# EAGLE library part M5STACK_MBUS (library m5stack-connector)
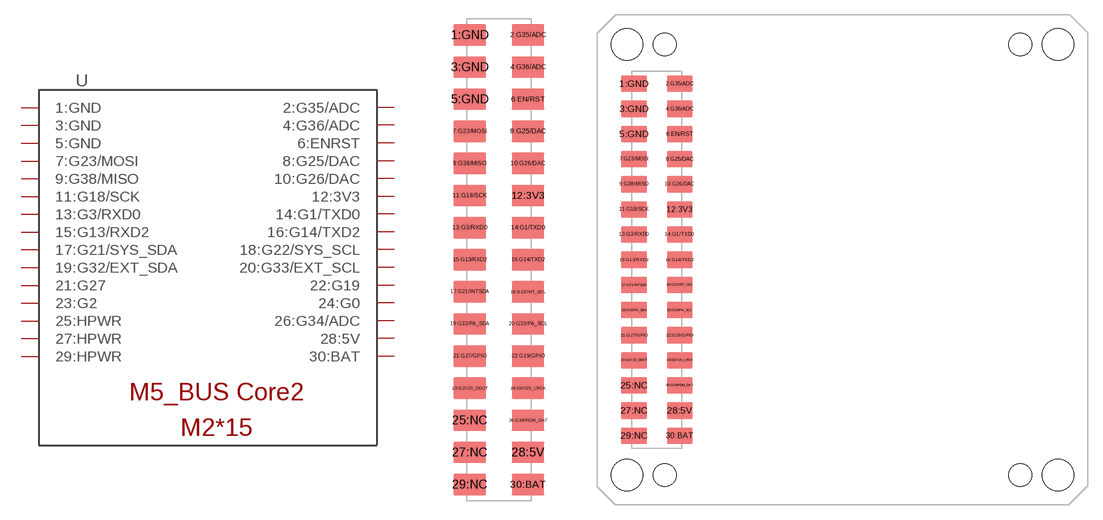
[diagram p0: symbol with the pads of PINHEAD2X15; footprints PINHEAD2X15, PINHEAD2X15CORE2]

Designator prefix -

## M5STACK_MBUS  [PINHEAD2X15]
1:GND  1:GND  pas
2:G35/ADC  2:G35/ADC  pas
3:GND  3:GND  pas
4:G36/ADC  4:G36/ADC  pas
5:GND  5:GND  pas
6:EN/RST  6:ENRST  pas
7:G23/MOSI  7:G23/MOSI  pas
8:G25/DAC  8:G25/DAC  pas
9:G38/MISO  9:G38/MISO  pas
10:G26/DAC  10:G26/DAC  pas
11:G18/SCK  11:G18/SCK  pas
12:3V3  12:3V3  pas
13:G3/RXD0  13:G3/RXD0  pas
14:G1/TXD0  14:G1/TXD0  pas
15:G13/RXD2  15:G13/RXD2  pas
16:G14/TXD2  16:G14/TXD2  pas
17:G21/INTSDA  17:G21/SYS_SDA  pas
18:G22/INT_SCL  18:G22/SYS_SCL  pas
19:G32/PA_SDA  19:G32/EXT_SDA  pas
20:G33/PA_SCL  20:G33/EXT_SCL  pas
21:G27/GPIO  21:G27  pas
22:G19/GPIO  22:G19  pas
23:G2/I2S_DOUT  23:G2  pas
24:G0/I2S_LRCK  24:G0  pas
25:NC  25:HPWR  pas
26:G34/PDM_DAT  26:G34/ADC  pas
27:NC  27:HPWR  pas
28:5V  28:5V  pas
29:NC  29:HPWR  pas
30:BAT  30:BAT  pas

## M5STACK_MBUSPINHEADM5STACK  [PINHEAD2X15CORE2]
Pads as for PINHEAD2X15

## Footprint PINHEAD2X15 (pad centres in mm)
smd 2.6 x 1.7: 1:GND -2.3,17.78; 2:G35/ADC 2.3,17.78; 3:GND -2.3,15.24; 4:G36/ADC 2.3,15.24; 5:GND -2.3,12.7; 6:EN/RST 2.3,12.7; 7:G23/MOSI -2.3,10.16; 8:G25/DAC 2.3,10.16; 9:G38/MISO -2.3,7.62; 10:G26/DAC 2.3,7.62; 11:G18/SCK -2.3,5.08; 12:3V3 2.3,5.08; 13:G3/RXD0 -2.3,2.54; 14:G1/TXD0 2.3,2.54; 15:G13/RXD2 -2.3,0; 16:G14/TXD2 2.3,0; 17:G21/INTSDA -2.3,-2.54; 18:G22/INT_SCL 2.3,-2.54; 19:G32/PA_SDA -2.3,-5.08; 20:G33/PA_SCL 2.3,-5.08; 21:G27/GPIO -2.3,-7.62; 22:G19/GPIO 2.3,-7.62; 23:G2/I2S_DOUT -2.3,-10.16; 24:G0/I2S_LRCK 2.3,-10.16; 25:NC -2.3,-12.7; 26:G34/PDM_DAT 2.3,-12.7; 27:NC -2.3,-15.24; 28:5V 2.3,-15.24; 29:NC -2.3,-17.78; 30:BAT 2.3,-17.78

## Footprint PINHEAD2X15CORE2 (pad centres in mm)
smd 2.6 x 1.7: 1:GND -2.3,17.78; 2:G35/ADC 2.3,17.78; 3:GND -2.3,15.24; 4:G36/ADC 2.3,15.24; 5:GND -2.3,12.7; 6:EN/RST 2.3,12.7; 7:G23/MOSI -2.3,10.16; 8:G25/DAC 2.3,10.16; 9:G38/MISO -2.3,7.62; 10:G26/DAC 2.3,7.62; 11:G18/SCK -2.3,5.08; 12:3V3 2.3,5.08; 13:G3/RXD0 -2.3,2.54; 14:G1/TXD0 2.3,2.54; 15:G13/RXD2 -2.3,0; 16:G14/TXD2 2.3,0; 17:G21/INTSDA -2.3,-2.54; 18:G22/INT_SCL 2.3,-2.54; 19:G32/PA_SDA -2.3,-5.08; 20:G33/PA_SCL 2.3,-5.08; 21:G27/GPIO -2.3,-7.62; 22:G19/GPIO 2.3,-7.62; 23:G2/I2S_DOUT -2.3,-10.16; 24:G0/I2S_LRCK 2.3,-10.16; 25:NC -2.3,-12.7; 26:G34/PDM_DAT 2.3,-12.7; 27:NC -2.3,-15.24; 28:5V 2.3,-15.24; 29:NC -2.3,-17.78; 30:BAT 2.3,-17.78
hole 2.3 at 0.8,21.75
hole 2.3 at 0.8,-21.75
hole 2.3 at 36.7,21.75
hole 2.3 at 36.7,-21.75
hole 3.2 at -3,21.75
hole 3.2 at 40.5,21.75
hole 3.2 at -3,-21.75
hole 3.2 at 40.5,-21.75